# Altium schematic symbol library Symbols.SchLib: 36 symbols
Pins are listed as number, name and electrical type; pins without a type are passive.

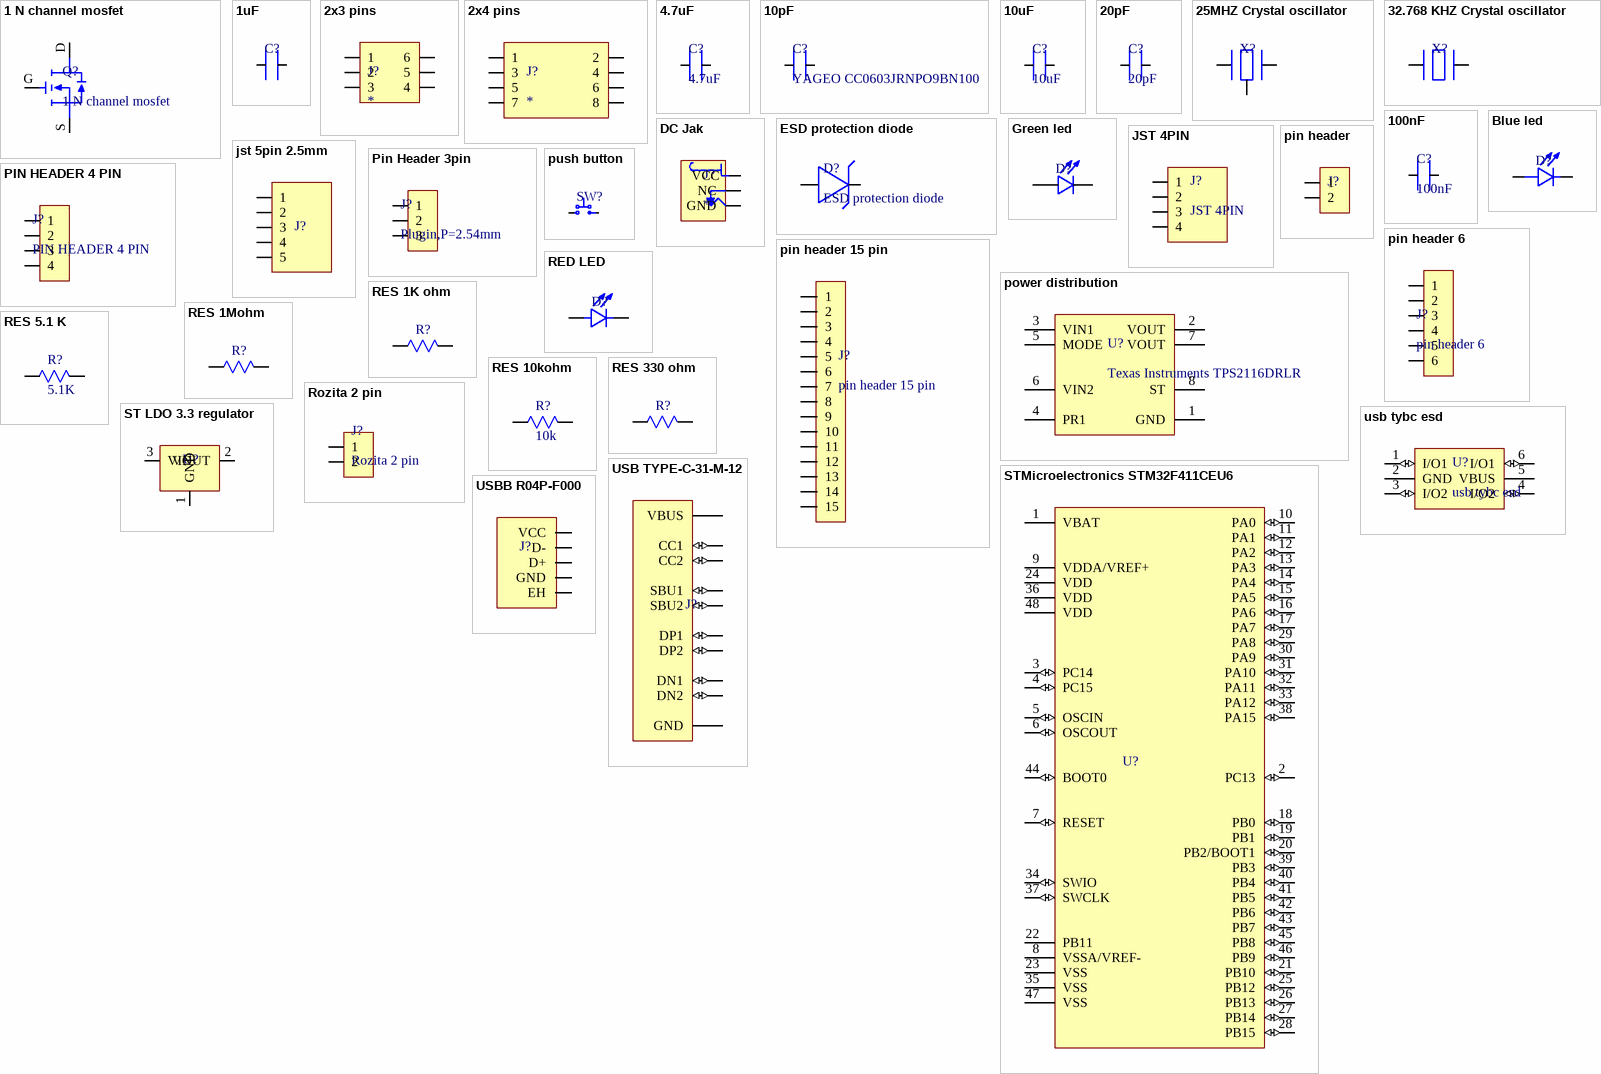
[diagram p0: symbols 1 N channel mosfet to USBB R04P-F000]

## 1 N channel mosfet
designator Q?
20V 7A 1.25W 10mΩ@4.5V,7A 500mV 1 N-channel SOT-23-3L MOSFETs ROHS; Manufacture: Siliup; Manufacture part number: SP20N09T1; Supplier: LCSC; Supplier part number: C41354900; Link: https://www.lcsc.com/product-detail/MOSFETs_Siliup-SP20N09T1_C41354900.html
footprint 1 N channel mosfet
pins: D, G, S

## 1uF
designator C?  (value not drawn)
16V 1uF X5R ±10% 0603 Multilayer Ceramic Capacitors MLCC - SMD/SMT ROHS; Manufacture: HRE; Manufacture part number: CGA0603X5R105K160JT; Supplier: LCSC; Supplier part number: C6119849; Link: https://www.lcsc.com/product-detail/Multilayer-Ceramic-Capacitors-MLCC-SMD-SMT_HRE-CGA0603X5R105K160JT_C6119849.html
footprint 0603 CAP (Chip Capacitor, 2-Leads, Body 1.60x0.80mm, IPC Medium Density)
pins: 1, 2

## 2x3 pins
designator J?
Straight 2.54mm 6mm 6P 3mm 2.54mm 双排 2x3P Plugin,P=2.54mm Pin Headers ROHS; Manufacturer: HanElectricity; Mfr. Part #: 2541WV-2x03P; supplier: LCSC; LCSC Part #: C5383104
footprint 2x3 pins
pins: 1, 2, 3, 4, 5, 6

## 2x4 pins
designator J?
3A Straight Square Pins 2.5mm 8P 6mm -40℃~+105℃ 3mm 2.54mm 双排 Black 2.54mm 2x4P Plugin,P=2.54mm Pin Headers ROHS; Manufacturer: Liansheng; Mfr. Part #: PH-00179; supplier: LCSC; LCSC Part #: C2829882
footprint 2x4 pins
pins: 1, 2, 3, 4, 5, 6, 7, 8

## 4.7uF
designator C?
6.3V 4.7uF X5R ±20% 0603 Multilayer Ceramic Capacitors MLCC - SMD/SMT ROHS; Manufacture: Samsung Electro-Mechanics; Manufacture part number: CL10A475MQ8NNNC; Supplier: LCSC; Supplier part number: C154959; Link: https://www.lcsc.com/product-detail/Multilayer-Ceramic-Capacitors-MLCC-SMD-SMT_Samsung-Electro-Mechanics-CL10A475MQ8NNNC_C154959.html?s_z=n_6.3V%25204.7uF%2520X5R%2520%25C2%25B120%2525%25200603%2520Multilayer%2520Ceramic%2520Capacitors%2520MLCC%2520-%2520SMD%252FSMT%2520ROHS
footprint 0603 CAP (Chip Capacitor, 2-Leads, Body 1.60x0.80mm, IPC Medium Density)
pins: 1, 2

## 10pF
designator C?, comment YAGEO CC0603JRNPO9BN100
50V 10pF NP0 ±5% 0603 Multilayer Ceramic Capacitors MLCC - SMD/SMT ROHS; Supplier: LCSC; Supplier part number: C106245; Manufacture: YAGEO; Manufacture part number: CC0603JRNPO9BN100; Link: https://www.lcsc.com/product-detail/Multilayer-Ceramic-Capacitors-MLCC-SMD-SMT_YAGEO-CC0603JRNPO9BN100_C106245.html
footprint 0603 CAP (Chip Capacitor, 2-Leads, Body 1.60x0.80mm, IPC Medium Density)
pins: 1, 2

## 10uF
designator C?
6.3V 10uF X5R ±20% 0603 Multilayer Ceramic Capacitors MLCC - SMD/SMT ROHS; Manufacture: YAGEO; Manufacture part number: CC0603MRX5R5BB106; Supplier: LCSC; Supplier part number: C109454; Link: https://www.lcsc.com/product-detail/Multilayer-Ceramic-Capacitors-MLCC-SMD-SMT_YAGEO-CC0603MRX5R5BB106_C109454.html
footprint 0603 CAP (Chip Capacitor, 2-Leads, Body 1.60x0.80mm, IPC Medium Density)
pins: 1, 2

## 20pF
designator C?
50V 20pF NP0 ±5% 0603 Multilayer Ceramic Capacitors MLCC - SMD/SMT ROHS; Manufacture: YAGEO; Manufacture part number: CC0603JRNPO9BN200; Supplier: LCSC; Supplier part number: C105621; ComponentLink1Description: New link; ComponentLink1URL: *; Link: https://www.lcsc.com/product-detail/Multilayer-Ceramic-Capacitors-MLCC-SMD-SMT_YAGEO-CC0603JRNPO9BN200_C105621.html
footprint 0603 CAP (Chip Capacitor, 2-Leads, Body 1.60x0.80mm, IPC Medium Density)
pins: 1, 2

## 25MHZ Crystal oscillator
designator X?, comment Shenzhen SCTF Elec SX3B25.000F0810G30  (value not drawn)
25MHz Surface Mount Crystal 8pF ±10ppm ±30ppm SMD3225-4P Crystals ROHS; Supplier: LCSC; Supplier part number: C7302032; Manufacture: Shenzhen SCTF Elec; Manufacture part number: SX3B25.000F0810G30; Link: https://www.lcsc.com/product-detail/Crystals_Shenzhen-SCTF-Elec-SX3B25-000F0810G30_C7302032.html
footprint 25MHZ Crystal Oscillators
pins: 1 OSC1, 2 GND, 3 OSC2

## 32.768 KHZ Crystal oscillator
designator X?, comment Seiko Epson X1A0000610006  (value not drawn)
32.768kHz Surface Mount Crystal 7pF ±20ppm SMD2012-2P Crystals ROHSS.; Supplier: LCSC; Supplier part number: C99009; Manufacture: Seiko Epson; Manufacture part number: X1A0000610006; Link: https://www.lcsc.com/product-detail/Crystals_Seiko-Epson-X1A0000610006_C99009.html
footprint 32.768 KHZ Crystal oscillator
pins: 1 OSC1, 2 OSC2

## 100nF
designator C?
50V 100nF X7R ±10% 0603 Multilayer Ceramic Capacitors MLCC - SMD/SMT ROHS; Manufacture: YAGEO; Manufacture part number: CC0603KRX7R9BB104; Supplier: LCSC; Supplier part number: C14663; Link: https://www.lcsc.com/product-detail/Multilayer-Ceramic-Capacitors-MLCC-SMD-SMT_YAGEO-CC0603KRX7R9BB104_C14663.html
footprint 0603 CAP (Chip Capacitor, 2-Leads, Body 1.60x0.80mm, IPC Medium Density)
pins: 1, 2

## Blue led
designator D?, comment BLUE  (value not drawn)
20mA 100mcd Colorless Transparent Lens 465nm Blue 3.3V 0805 LED Indication - Discrete ROHS; Manufacture: Kingbright; Manufacture part number: APHCM2012QBC/D-F01; Supplier: LCSC; Supplier part number: C5248439; Link: https://www.lcsc.com/product-detail/LED-Indication-Discrete_Kingbright-APHCM2012QBC-D-F01_C5248439.html
footprint led 0805
pins: 1, 2

## DC Jak
designator J?
Bend-in DC Power Receptacle -20℃~+70℃ 2.5mm 6.5mm 5A 24V Plugin DC Power Connectors ROHS; Manufacture: XKB Connection; Manufacture part number: DC-005-5A-2.5; Supplier: LCSC; Supplier part number: C381115; Link: https://www.lcsc.com/product-detail/DC-Power-Connectors_XKB-Connection-DC-005-5A-2-5_C381115.html?s_z=n_DC%2520Power%2520Receptacle%25202.5mm%25206.4mm%25205A%2520%2520Plugin%2520DC%2520Power%2520Connectors%2520ROHS
footprint DC Jack
pins: 1 VCC (power), 2 GND (power), 3 NC (power)

## ESD protection diode
designator D?
SOT-5X3 ESD and Surge Protection (TVS/ESD) ROHS; Manufacture: Texas Instruments; Manufacture part number: ESD321DYAR; Supplier: LCSC; Supplier part number: C20345394; Link: https://www.lcsc.com/product-detail/ESD-and-Surge-Protection-TVS-ESD_Texas-Instruments-ESD321DYAR_C20345394.html
footprint ESD protection diode
pins: 1, 2

## Green led
designator D?  (value not drawn)
25mA 0.8mcd -40℃~+85℃ 568nm Green 120° 62.5mW 1.9V 0805 LED Indication - Discrete ROHS; Manufacture: Kingbright; Manufacture part number: KP-2012LSGC; Supplier: LCSC; Supplier part number: C18199799; Link: https://www.lcsc.com/product-detail/LED-Indication-Discrete_Kingbright-KP-2012LSGC_C18199799.html
footprint led 0805
pins: 1, 2

## JST 4PIN
designator J?
1x4P 4P XH Tin 4 -25℃~+85℃ 3A 1 2.5mm Copper Direct Insert Plugin,P=2.5mm Wire To Board Connector ROHS; Manufacture: Hong Cheng; Manufacture part number: HC-XH-4A-TW; Supplier: LCSC; Supplier part number: C19273766; Link: https://www.lcsc.com/product-detail/Wire-To-Board-Connector_Hong-Cheng-HC-XH-4A-TW_C19273766.html?s_z=n_C19273766
footprint JST 4PIN
pins: 1, 2, 3, 4

## jst 5pin 2.5mm
designator J?
1x5P 5P XH Tin 5 -25℃~+85℃ 3A 1 2.5mm Brass Direct Insert Plugin,P=2.5mm Wire To Board Connector ROHS; Manufacture: JST; Manufacture part number: B5B-XH-A(LF)(SN); Supplier: LCSC; Supplier part number: C157991; Link: https://www.lcsc.com/product-detail/Wire-To-Board-Connector_JST-B5B-XH-A-LF-SN_C157991.html
footprint JST 5 PIN 2.5 MM
pins: 1, 2, 3, 4, 5

## pin header
designator J?, comment Straight Policy 2.5mm 2P 6mm -40℃~+105℃ 3mm 2.54mm Single Row Black Brass 1x2P Plugin,P=2.54mm Pin Headers ROHS  (value not drawn)
Manufacture: XFCN; Manufacture part number: PZ254V-11-02P; Supplier: LCSC; Supplier part number: C492401; Link: https://www.lcsc.com/product-detail/Pin-Headers_XFCN-PZ254V-11-02P_C492401.html
footprint pin header 2PIN (Straight Policy 2.5mm 2P 6mm -40?~+105? 3mm 2.54mm Single Row Black Brass 1x2P Plugin,P=2.54mm Pin Headers ROHS)
pins: 1, 2

## Pin Header 3pin
designator J?, comment Plugin,P=2.54mm
3A Straight 3P -65℃~+125℃ 2.54mm Black Single Row Phosphor Bronze Plugin,P=2.54mm Pin Headers ROHS; Manufacture: Amphenol ICC; Manufacture part number: 68001-203HLF; Supplier: LCSC; Supplier part number: C5346215; Link: https://www.lcsc.com/product-detail/Pin-Headers_Amphenol-ICC-68001-203HLF_C5346215.html?s_z=n_Pin%2520Header%25201x3%2520TH%2520Pitch%25202.54mm
footprint pin header 3 pin
pins: 1, 2, 3

## PIN HEADER 4 PIN
designator J?
3A Policy 2.5mm 6mm 4P -40℃~+105℃ 2.54mm Single Row 1x4P Plugin,P=2.54mm Pin Headers ROHS; Manufacture: BXCONN; Manufacture part number: A254UP-ZD04P; Supplier: LCSC; Supplier part number: C41413833; Link: https://www.lcsc.com/product-detail/Pin-Headers_BXCONN-A254UP-ZD04P_C41413833.html
footprint pin header 4PIN
pins: 1, 2, 3, 4

## pin header 6
designator J?
Straight Policy 2.5mm 6P 6mm -40℃~+105℃ 3mm 2.54mm Single Row Black Brass 1x6P Plugin,P=2.54mm Pin Headers ROHS; Manufacture: XFCN; Manufacture part number: PZ254V-11-06P; Supplier: LCSC; Supplier part number: C492405; Link: https://www.lcsc.com/product-detail/Pin-Headers_XFCN-PZ254V-11-06P_C492405.html?s_z=n_Connectors%257CPin%2520Headers
footprint pin header 6 pin (3A Policy 2.5mm 6mm 4P -40℃~+105℃ 2.54mm Single Row 1x4P Plugin,P=2.54mm Pin Headers ROHS)
pins: 1, 2, 3, 4, 5, 6

## pin header 15 pin
designator J?
Gold 1kV 3A Straight Policy 2.5mm 6mm 15P -40℃~+105℃ 3mm 2.54mm Brass Black Single Row 1x15P Plugin,P=2.54mm Pin Headers ROHS; Manufacture: Megastar; Manufacture part number: ZX-PZ2.54-1-15PZZ; Supplier: LCSC; Supplier part number: C7501269; Link: https://www.lcsc.com/product-detail/Pin-Headers_Megastar-ZX-PZ2-54-1-15PZZ_C7501269.html?s_z=n_pin%2520hea
footprint pin headers 15 pin
pins: 1, 2, 3, 4, 5, 6, 7, 8, 9, 10, 11, 12, 13, 14, 15

## power distribution
designator U?, comment Texas Instruments TPS2116DRLR
1.6V~5.5V 42mΩ 2.5A 1 SOT-583 Power Distribution Switches ROHS; Supplier: LCSC; Supplier part number: C3235557; Manufacture: Texas Instruments; Manufacture part number: TPS2116DRLR; Link: https://www.lcsc.com/product-detail/Power-Distribution-Switches_Texas-Instruments-TPS2116DRLR_C3235557.html
footprint power distribution (1.6V~5.5V 42mΩ 2.5A 1 SOT-583 Power Distribution Switches ROHS)
pins: 1 GND (power), 2 VOUT (power), 3 VIN1 (power), 4 PR1, 5 MODE (power), 6 VIN2 (power), 7 VOUT (power), 8 ST (oc)

## push button
designator SW?
None Without bracket 50mA 6.1mm 30,000 Times 250gf 12V 3.7mm 2.5mm Rectangle button Standing paste SPST SMD,3.7x6.1mm Tactile Switches ROHS; Manufacture: HYP (Hongyuan Precision); Manufacture part number: 1TS002E-2500-2500-CT; Supplier: LCSC; Supplier part number: C329185; Link: https://www.lcsc.com/product-detail/Tactile-Switches_HYP-Hongyuan-Precision-1TS002E-2500-2500-CT_C329185.html
footprint Push button
pins: 1, 2

## RED LED
designator D?, comment RED led  (value not drawn)
20mA 8mcd Colorless Transparent Lens 617nm Red 2V 0805 LED Indication - Discrete ROHS; Manufacture: Kingbright; Manufacture part number: APT2012EC; Supplier: LCSC; Supplier part number: C5879378; Link: https://www.lcsc.com/product-detail/LED-Indication-Discrete_Kingbright-APT2012EC_C5879378.html
footprint led 0805
pins: 1, 2

## RES 1K ohm
designator R?, comment 1K  (value not drawn)
100mW Thick Film Resistors 75V ±100ppm/℃ ±5% 1kΩ 0603 Chip Resistor - Surface Mount ROHS; Manufacture: FOJAN; Manufacture part number: FRC0603J102 TS; Supplier: LCSC; Supplier part number: C2907113; Link: https://www.lcsc.com/product-detail/Chip-Resistor-Surface-Mount_FOJAN-FRC0603J102-TS_C2907113.html
footprint 0603 RES (100mW Thick Film Resistors 75V ±100ppm/? ±5% 1kO 0603 Chip Resistor - Surface Mount ROHS)
pins: 1, 2

## RES 1Mohm
designator R?, comment 1M  (value not drawn)
100mW Thick Film Resistors 75V ±100ppm/℃ ±5% 1MΩ 0603 Chip Resistor - Surface Mount ROHS; Manufacture: FOJAN; Manufacture part number: FRQ0603J105 TS; Supplier: LCSC; Supplier part number: C2934393; Link: https://www.lcsc.com/product-detail/Chip-Resistor-Surface-Mount_FOJAN-FRQ0603J105-TS_C2934393.html?s_z=n_resistors
footprint 0603 RES (100mW Thick Film Resistors 75V ±100ppm/? ±5% 1kO 0603 Chip Resistor - Surface Mount ROHS)
pins: 1, 2

## RES 5.1 K
designator R?, comment 5.1K
100mW Thin Film Resistor 75V ±25ppm/℃ ±0.1% 5.1kΩ 0603 Chip Resistor - Surface Mount ROHS; Manufacture: YAGEO; Manufacture part number: RT0603BRD075K1L; Supplier: LCSC; Supplier part number: C122969; Link: https://www.lcsc.com/product-detail/Chip-Resistor-Surface-Mount_YAGEO-RT0603BRD075K1L_C122969.html
footprint 0603 RES (100mW Thick Film Resistors 75V ±100ppm/? ±5% 1kO 0603 Chip Resistor - Surface Mount ROHS)
pins: 1, 2

## RES 10kohm
designator R?, comment 10k
100mW Thin Film Resistor 75V ±25ppm/℃ ±0.1% 10kΩ 0603 Chip Resistor - Surface Mount ROHS; Manufacture: YAGEO; Manufacture part number: RT0603BRD0710KL; Supplier: LCSC; Supplier part number: C95204; Link: https://www.lcsc.com/product-detail/Chip-Resistor-Surface-Mount_YAGEO-RT0603BRD0710KL_C95204.html?s_z=n_100mW%2520Thin%2520Film%2520Resistor%252075V%2520%25C2%25B125ppm%252F%25E2%2584%2583%2520%25C2%25B10.1%2525%252010k%25CE%25A9%25200603%2520Chip%2520Resistor%2520-%2520Surface%2520Mount%2520ROHS
footprint 0603 RES (100mW Thick Film Resistors 75V ±100ppm/? ±5% 1kO 0603 Chip Resistor - Surface Mount ROHS)
pins: 1, 2

## RES 330 ohm
designator R?, comment 330 ohm  (value not drawn)
100mW Thick Film Resistors 75V ±100ppm/℃ ±5% 330Ω 0603 Chip Resistor - Surface Mount ROHS; Manufacture: FOJAN; Manufacture part number: FRC0603J331 TS; Supplier: LCSC; Supplier part number: C2907152; Link: https://www.lcsc.com/product-detail/Chip-Resistor-Surface-Mount_FOJAN-FRC0603J331-TS_C2907152.html
footprint 0603 RES (100mW Thick Film Resistors 75V ±100ppm/? ±5% 1kO 0603 Chip Resistor - Surface Mount ROHS)
pins: 1, 2

## Rozita 2 pin
designator J?
1x2P 18A -40℃~+105℃ 250V Green 12~30 Direct Insert 5.08mm 2.5 1 2 Plugin,P=5.08mm Screw Terminal Blocks ROHS; Manufacture: DORABO; Manufacture part number: DB128L-5.08-2P-GN-S; Supplier: LCSC; Supplier part number: C395868; Link: https://www.lcsc.com/product-detail/Screw-Terminal-Blocks_DORABO-DB128L-5-08-2P-GN-S_C395868.html
footprint Rozita
pins: 1, 2

## ST LDO 3.3 regulator
designator U?
1A Fixed 3.3V Positive electrode 15V SOT-223-4 Voltage Regulators - Linear, Low Drop Out (LDO) Regulators ROHS; Manufacture: STMicroelectronics; Manufacture part number: LD1117AS33TR; Supplier: LCSC; Supplier part number: C115288; Link: https://www.lcsc.com/product-detail/Voltage-Regulators-Linear-Low-Drop-Out-LDO-Regulators_STMicroelectronics-LD1117AS33TR_C115288.html
footprint ST_LDO (SOT223, 4-Leads, Body 6.50x7.00mm (avg), Pitch 2.30mm, IPC Medium Density)
pins: 1 GND (power), 2 VOUT (power), 3 VIN (power)

## STMicroelectronics STM32F411CEU6
designator U?, comment High-performance basic series ARM Cortex-M4 MCU with DSP and FPU, featuring 512 KB Flash, 100 MHz CPU, and ART accelerator  (value not drawn)
ARM-M4 100MHz UFQFPN-48(7x7) Microcontrollers (MCU/MPU/SOC) ROHS; Manufacture: STMicroelectronics; Manufacture  part number: STM32F411CEU6; Supplier: LCSC; Supplier part numberSupplier part number: C60420; Link: https://www.lcsc.com/product-detail/Microcontrollers-MCU-MPU-SOC_STMicroelectronics-STM32F411CEU6_C60420.html?s_z=n_STM32F411CEU6
footprint Stm32 UFQFPN-48 (QFN, 48-Leads, Body 7.00x7.00mm, Pitch 0.50mm, Thermal Pad 5.60x5.60mm, IPC Medium Density)
pins: 1 VBAT  (power), 2 PC13 (io), 3 PC14 (io), 4 PC15 (io), 5 OSCIN (io), 6 OSCOUT (io), 7 RESET (io), 8 VSSA/VREF- (power), 9 VDDA/VREF+ (power), 10 PA0 (io), 11 PA1 (io), 12 PA2 (io), 13 PA3 (io), 14 PA4 (io), 15 PA5 (io), 16 PA6 (io), 17 PA7 (io), 18 PB0 (io), 19 PB1 (io), 20 PB2/BOOT1 (io), 21 PB10 (io), 22 PB11 (power), 23 VSS (power), 24 VDD (power), 25 PB12 (io), 26 PB13 (io), 27 PB14 (io), 28 PB15 (io), 29 PA8 (io), 30 PA9 (io), 31 PA10 (io), 32 PA11 (io), 33 PA12 (io), 34 SWIO  (io), 35 VSS (power), 36 VDD (power), 37 SWCLK (io), 38 PA15 (io), 39 PB3 (io), 40 PB4 (io), 41 PB5 (io), 42 PB6 (io), 43 PB7 (io), 44 BOOT0 (io), 45 PB8 (io), 46 PB9 (io), 47 VSS (power), 48 VDD (power)

## usb tybc esd
designator U?
SOT-23-6 ESD and Surge Protection (TVS/ESD) ROHS; Manufacture: TECH PUBLIC; Manufacture part number: TPUSBLC6-2SC6; Supplier: LCSC; Supplier part number: C558442; Link: https://www.lcsc.com/product-detail/ESD-and-Surge-Protection-TVS-ESD_TECH-PUBLIC-TPUSBLC6-2SC6_C558442.html
footprint usb c esd
pins: 1 I/O1 (io), 2 GND (power), 3 I/O2 (io), 4 I/O2 (io), 5 VBUS (power), 6 I/O1 (io)

## USB TYPE-C-31-M-12
designator J?  (value not drawn)
5A 1 16P Female Type-C SMD USB Connectors ROHS; Manufacture: Korean Hroparts Elec; Supplier: LCSC; Supplier part number: C165948; Manufacture part number: TYPE-C-31-M-12; Link: https://www.lcsc.com/product-detail/USB-Connectors_Korean-Hroparts-Elec-TYPE-C-31-M-12_C165948.html
footprint USB Type-C (5A 1 16P Female Type-C SMD USB Connectors ROHS)
pins: 0 GND (power), A5 CC1 (io), A6 DP1 (io), A7 DN1 (io), A8 SBU1 (io), B5 CC2 (io), B6 DP2 (io), B7 DN2 (io), B8 SBU2 (io), VBUS (power)

## USBB R04P-F000
designator J?
USB 2.0 1 4P Female Type-B Plugin USB Connectors ROHS; Manufacture: Ckmtw(Shenzhen Cankemeng); Manufacture part number: U-USBBR04P-F000; Supplier: lcsc; Supplier part number: C189733; Link: https://www.lcsc.com/product-detail/USB-Connectors_Ckmtw-Shenzhen-Cankemeng-U-USBBR04P-F000_C189733.html?s_z=n_usbb
footprint USBB
pins: 1 VCC (power), 2 D- (io), 3 D+ (io), 4 GND (power), 5 EH (power)